# Altium schematic symbol library 5112NV035.Schlib: 1 symbol
Pins are listed as number, name and electrical type; pins without a type are passive.

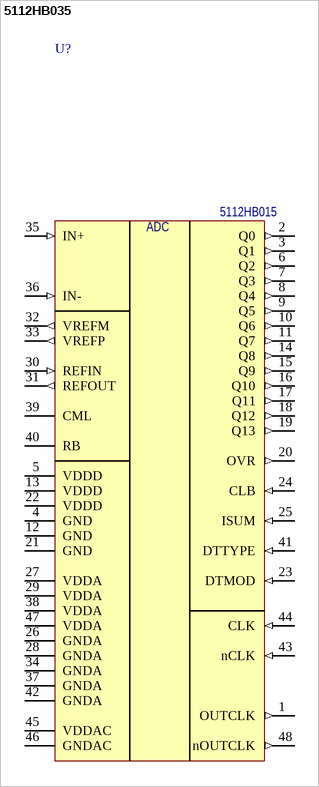
[diagram p0: symbol 5112НВ035]

## 5112НВ035
designator U?, comment Наименование: 5112НВ015  (hidden comment: 5112NV035)
14bits ADС 50MSPS; Потребление, Вт: 0.5; Назначение: 14bits ADС 50MSPS; ComponentLink1Description: DataSheet; ComponentLink1URL: https://dcsoyuz.ru/files/ADC/5112HB035/specifikacija_5112nv035_ver2.2.pdf
footprint 5142.48-А
footprint 5142.48-А_LFCSP-32
pins: 1 OUTCLK (out), 2 Q0 (out), 3 Q1 (out), 4 GND, 5 VDDD (power), 6 Q2 (out), 7 Q3 (out), 8 Q4 (out), 9 Q5 (out), 10 Q6 (out), 11 Q7 (out), 12 GND, 13 VDDD (power), 14 Q8 (out), 15 Q9 (out), 16 Q10 (out), 17 Q11 (out), 18 Q12 (out), 19 Q13 (out), 20 OVR (out), 21 GND, 22 VDDD (power), 23 DTMOD (in), 24 CLB (in), 25 ISUM (in), 26 GNDA, 27 VDDA (power), 28 GNDA, 29 VDDA (power), 30 REFIN (in), 31 REFOUT (out), 32 VREFM (out), 33 VREFP (out), 34 GNDA, 35 IN+ (in), 36 IN- (in), 37 GNDA, 38 VDDA (power), 39 CML (power), 40 RB (power), 41 DTTYPE (in), 42 GNDA, 43 nCLK (in), 44 CLK (in), 45 VDDAC, 46 GNDAC, 47 VDDA (power), 48 nOUTCLK (out)
text: ADC